# Altium schematic symbol library PCA6416AEVJ.SchLib: 1 symbol
Pins are listed as number, name and electrical type; pins without a type are passive.

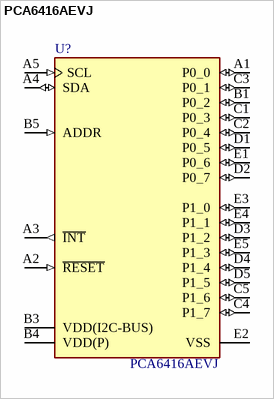
[diagram p0: symbol PCA6416AEVJ]

## PCA6416AEVJ
designator U?
Interface - I/O Expanders 16bit IO Expander Low Voltage VFBGA; Manufacturer_Name: NXP; Geometry.Height: 1mm; Mouser Part Number: 771-PCA6416AEVJ; Mouser Price/Stock: https://www.mouser.co.uk/ProductDetail/NXP-Semiconductors/PCA6416AEVJ?qs=vnbNJPHmPnOiiEusj5oAcQ%3D%3D; Manufacturer_Part_Number: PCA6416AEVJ; Datasheet Link: http://www.nxp.com/docs/en/data-sheet/PCA6416A.pdf
footprint BGA24C50P5X5_300X300X100
pins: A1 P0_0 (io), A2 ~{RESET} (in), A3 ~{INT} (out), A4 SDA (io), A5 SCL (in), B1 P0_2 (io), B3 VDD(I2C-BUS) (power), B4 VDD(P) (power), B5 ADDR (in), C1 P0_3 (io), C2 P0_4 (io), C3 P0_1 (io), C4 P1_7 (io), C5 P1_6 (io), D1 P0_5 (io), D2 P0_7 (io), D3 P1_2 (io), D4 P1_4 (io), D5 P1_5 (io), E1 P0_6 (io), E2 VSS (power), E3 P1_0 (io), E4 P1_1 (io), E5 P1_3 (io)